# EAGLE library part 690368190672 (library Wuerth_Elektronik_eiCan_MiniModule_Connectors_v1.2)
WR-MM Female Angled Connector with Latch and with Polarization, 6 Pins
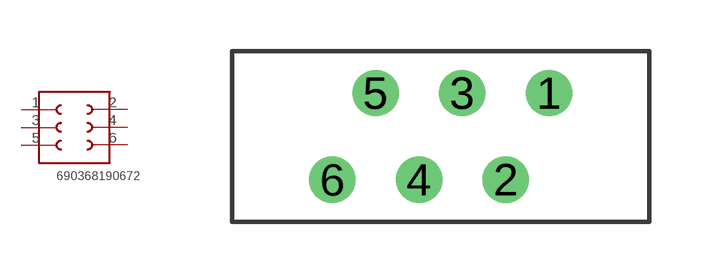
[diagram p22: symbol with the pads of 690368190672; footprint 690368190672]

Designator prefix K

## 690368190672  [690368190672]
1  1  pas
2  6  pas
3  2  pas
4  5  pas
5  3  pas
6  4  pas

## Footprint 690368190672 (pad centres in mm)
WR-MM Female Angled Connector with Latch and with Polarization, 6 Pins
drill 0.85 round: 1 1.905,1.27; 2 0.635,-1.27; 3 -0.635,1.27; 4 -1.905,-1.27; 5 -3.175,1.27; 6 -4.445,-1.27